# Altium footprint library PcbLib1.PcbLib: 2 footprints
Each footprint in its own frame and in the unit in brackets; x right, y up, seen from the top. Pads: shape width x height; smd on the part's side, far side on the other; paste and mask are expansions set on the pad; w line width, h text height; cw(c..) or ccw(c..) is an arc to the next point about the centre after c.
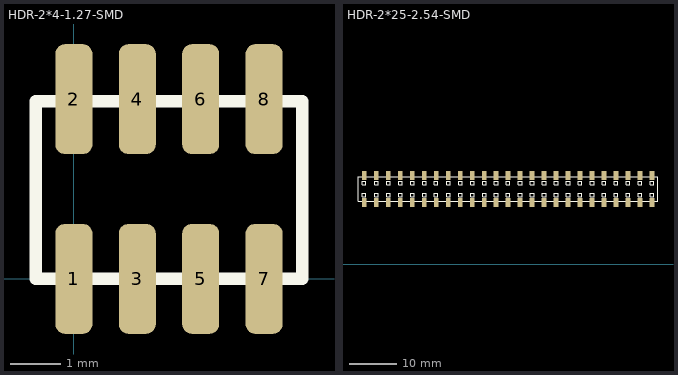
[diagram p0: the footprints below, top view; thin cyan lines are the x and y axes]

## HDR-2*4-1.27-SMD [mm] "MDLZCOOL绘制"
height 4.3
pads (8):
  rrect50% 0.74x2.2 smd: 1(0,0) 2(0,3.6) 3(1.27,0) 4(1.27,3.6) 5(2.54,0) 6(2.54,3.6) 7(3.81,0) 8(3.81,3.6)
Top Overlay:
  lines w0.254: -0.762,0 4.572,0 4.572,3.556 -0.762,3.556 -0.762,0

## HDR-2*25-2.54-SMD [mm] "MDLZCOOL绘制"
height 3.5
pads (50):
  rect 1.02x1.9 smd: 1(10.287,18.796) 2(10.287,13.096) 3(12.827,18.796) 4(12.827,13.096) 5(15.367,18.796) 6(15.367,13.096) 7(17.907,18.796) 8(17.907,13.096) 9(20.447,18.796) 10(20.447,13.096) 11(22.987,18.796) 12(22.987,13.096) 13(25.527,18.796) 14(25.527,13.096) 15(28.067,18.796) 16(28.067,13.096) 17(30.607,18.796) 18(30.607,13.096) 19(33.147,18.796) 20(33.147,13.096) 21(35.687,18.796) 22(35.687,13.096) 23(38.227,18.796) 24(38.227,13.096) 25(40.767,18.796) 26(40.767,13.096) 27(43.307,18.796) 28(43.307,13.096) 29(45.847,18.796) 30(45.847,13.096) 31(48.387,18.796) 32(48.387,13.096) 33(50.927,18.796) 34(50.927,13.096) 35(53.467,18.796) 36(53.467,13.096) 37(56.007,18.796) 38(56.007,13.096) 39(58.547,18.796) 40(58.547,13.096) 41(61.087,18.781) 42(61.087,13.081) 43(63.627,18.781) 44(63.627,13.081) 45(66.167,18.781) 46(66.167,13.081) 47(68.707,18.781) 48(68.707,13.081) 49(71.247,18.781) 50(71.247,13.081)
Top Overlay:
  drawing of 204 lines, arcs and shapes, not listed
3D body "HDR2.54 2x1P_M.STEP": height 5.15, standoff 0, extent 11.527,12.746 14.127,19.146
3D body "HDR2.54 2x1P_M.STEP": height 5.15, standoff 0, extent 8.987,12.746 11.587,19.146
3D body "HDR2.54 2x1P_M.STEP": height 5.15, standoff 0, extent 16.607,12.746 19.207,19.146
3D body "HDR2.54 2x1P_M.STEP": height 5.15, standoff 0, extent 14.067,12.746 16.667,19.146
3D body "HDR2.54 2x1P_M.STEP": height 5.15, standoff 0, extent 21.687,12.746 24.287,19.146
3D body "HDR2.54 2x1P_M.STEP": height 5.15, standoff 0, extent 19.147,12.746 21.747,19.146
3D body "HDR2.54 2x1P_M.STEP": height 5.15, standoff 0, extent 26.767,12.746 29.367,19.146
3D body "HDR2.54 2x1P_M.STEP": height 5.15, standoff 0, extent 24.227,12.746 26.827,19.146
3D body "HDR2.54 2x1P_M.STEP": height 5.15, standoff 0, extent 31.847,12.746 34.447,19.146
3D body "HDR2.54 2x1P_M.STEP": height 5.15, standoff 0, extent 29.307,12.746 31.907,19.146
3D body "HDR2.54 2x1P_M.STEP": height 5.15, standoff 0, extent 36.927,12.746 39.527,19.146
3D body "HDR2.54 2x1P_M.STEP": height 5.15, standoff 0, extent 34.387,12.746 36.987,19.146
3D body "HDR2.54 2x1P_M.STEP": height 5.15, standoff 0, extent 42.007,12.746 44.607,19.146
3D body "HDR2.54 2x1P_M.STEP": height 5.15, standoff 0, extent 39.467,12.746 42.067,19.146
3D body "HDR2.54 2x1P_M.STEP": height 5.15, standoff 0, extent 47.087,12.746 49.687,19.146
3D body "HDR2.54 2x1P_M.STEP": height 5.15, standoff 0, extent 44.547,12.746 47.147,19.146
3D body "HDR2.54 2x1P_M.STEP": height 5.15, standoff 0, extent 52.167,12.746 54.767,19.146
3D body "HDR2.54 2x1P_M.STEP": height 5.15, standoff 0, extent 49.627,12.746 52.227,19.146
3D body "HDR2.54 2x1P_M.STEP": height 5.15, standoff 0, extent 57.247,12.746 59.847,19.146
3D body "HDR2.54 2x1P_M.STEP": height 5.15, standoff 0, extent 54.707,12.746 57.307,19.146
3D body "HDR2.54 2x1P_M.STEP": height 5.15, standoff 0, extent 59.787,12.731 62.387,19.131
3D body "HDR2.54 2x1P_M.STEP": height 5.15, standoff 0, extent 62.327,12.731 64.927,19.131
3D body "HDR2.54 2x1P_M.STEP": height 5.15, standoff 0, extent 64.867,12.731 67.467,19.131
3D body "HDR2.54 2x1P_M.STEP": height 5.15, standoff 0, extent 67.407,12.731 70.007,19.131
3D body "HDR2.54 2x1P_M.STEP": height 5.15, standoff 0, extent 69.947,12.731 72.547,19.131